# Altium footprint library TLP521.PcbLib: 1 footprints
Each footprint in its own frame and in the unit in brackets; x right, y up, seen from the top. Pads: shape width x height; smd on the part's side, far side on the other; paste and mask are expansions set on the pad; w line width, h text height; cw(c..) or ccw(c..) is an arc to the next point about the centre after c.
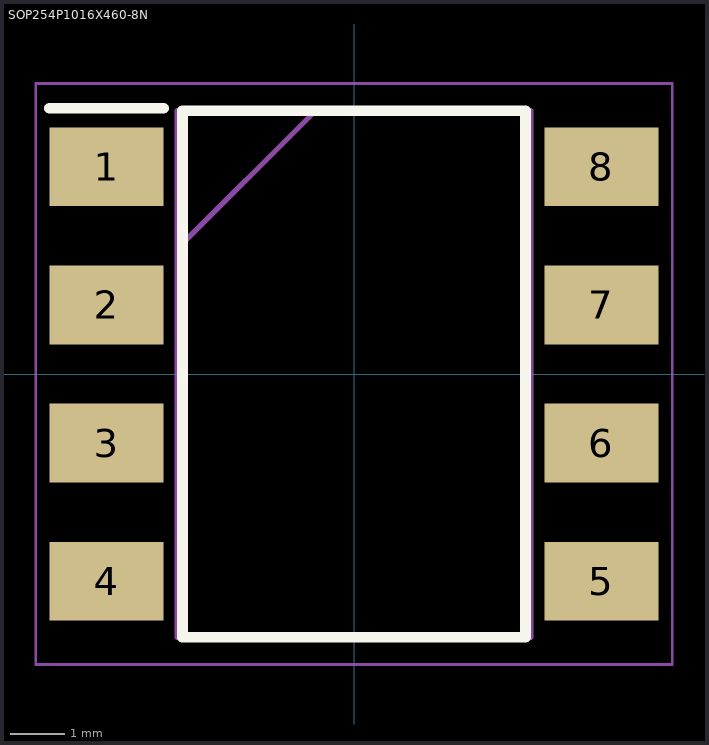
[diagram p0: the footprint, top view; thin cyan lines are the x and y axes]

## SOP254P1016X460-8N [mm]
pads (8):
  rect 2.1x1.45 smd: 1(-4.55,3.81) 2(-4.55,1.27) 3(-4.55,-1.27) 4(-4.55,-3.81) 5(4.55,-3.81) 6(4.55,-1.27) 7(4.55,1.27) 8(4.55,3.81)
Top Overlay:
  lines w0.2: -5.6,4.885 -3.5,4.885 ; -3.15,-4.84 -3.15,4.84 3.15,4.84 3.15,-4.84 -3.15,-4.84
Mechanical 13:
  lines w0.1: -3.25,2.3 -0.71,4.84 ; -3.25,-4.84 -3.25,4.84 3.25,4.84 3.25,-4.84 -3.25,-4.84
Mechanical 15:
  lines w0.05: -5.85,-5.34 -5.85,5.34 5.85,5.34 5.85,-5.34 -5.85,-5.34
3D body "TLP521-2SMT&R.stp": height 4.6, standoff 0, extent -5.08,-4.84 5.08,4.84